# Altium footprint library Connector.PcbLib: 170 footprints (part 10 of 11)
Each footprint in its own frame and in the unit in brackets; x right, y up, seen from the top. Pads: shape width x height; smd on the part's side, far side on the other; paste and mask are expansions set on the pad; w line width, h text height; cw(c..) or ccw(c..) is an arc to the next point about the centre after c.
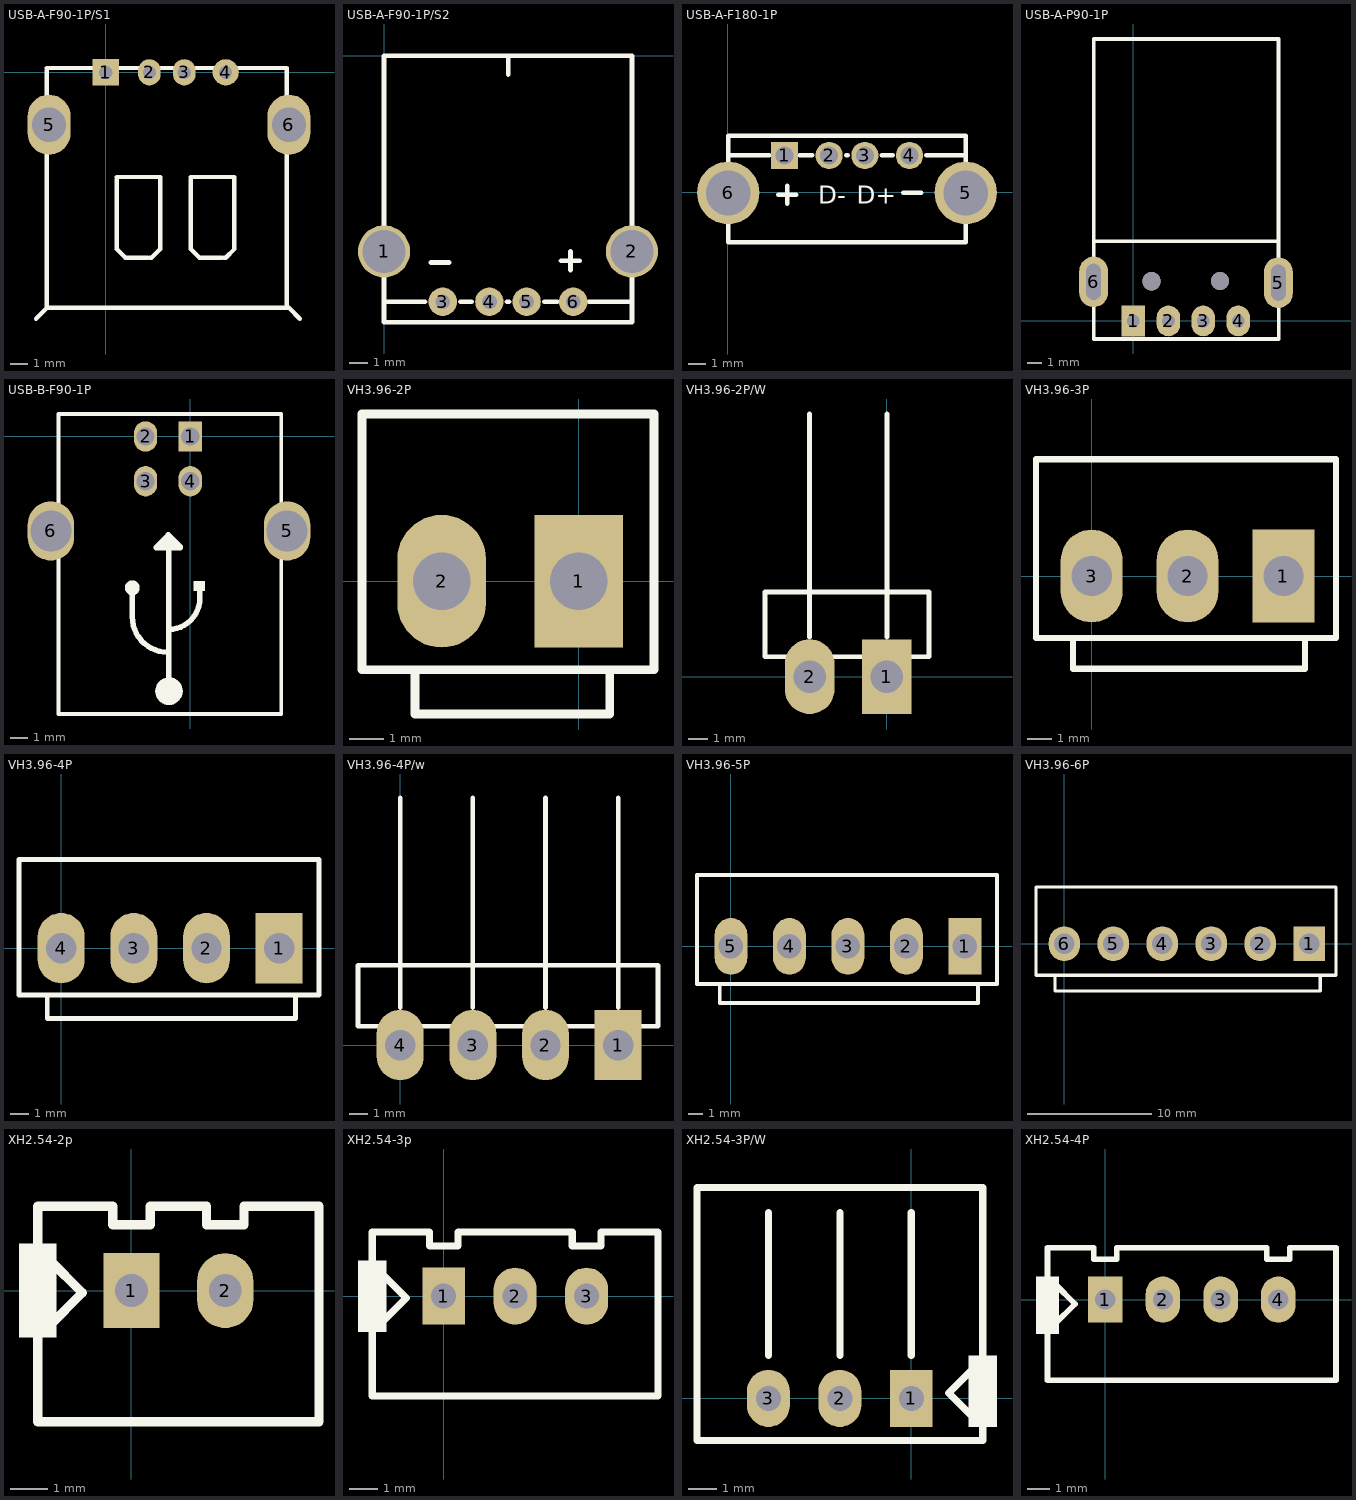
[diagram p9: the footprints below, top view; thin cyan lines are the x and y axes]

## USB-A-F90-1P/S1 [mil] "USB-A卧式插座1"
pads (6):
  rect 60x60 hole 30: 1(0,0)
  oval 52.13x60 hole 30: 2(100,0) 3(180,0)
  round 60 hole 30: 4(275,0)
  oval 98.43x137.8 hole 78.74: 5(-130,-120) 6(420,-120)
Top Overlay:
  lines w10: -160,-565 -135,-540 ; -135,5 -135,-540 ; -135,10 415,10 415,-540 ; 25,-245 25,-405 45,-425 95,-425 ; 25,-240 125,-240 125,-405 105,-425 100,-425 ; 195,-245 195,-405 215,-425 265,-425 ; 195,-240 295,-240 295,-405 275,-425 270,-425 ; 445,-565 420,-540 415,-540 ; -135,-540 415,-540
3D body: height 275.59, standoff 0, extent -135,-540 415,10

## USB-A-F90-1P/S2 [mm] "USB-A卧式插座2"
pads (6):
  round 2.8 hole 2.3: 1(0,-10.5) 2(13.3,-10.5)
  round 1.524 hole 0.8: 3(3.15,-13.2) 4(5.65,-13.2) 5(7.65,-13.2) 6(10.15,-13.2)
Top Overlay:
  lines w0.254: 0,-13.2 2.2,-13.2 ; 2.5,-11.1 3.5,-11.1 ; 4.1,-13.2 4.7,-13.2 ; 6.6,-13.2 6.7,-13.2 ; 6.66,-1 6.66,0 ; 8.6,-13.2 9.3,-13.2 ; 9.5,-11 10.5,-11 ; 10,-11.5 10,-10.5 ; 11,-13.2 13.3,-13.2 ; 0,-14.3 0,0 13.3,0 13.3,-14.3 0,-14.3
3D body "Samtec-USBR-A-S-S-O-TH.STEP": height 7.55, standoff -3.3, extent -1.245,-14.3 14.555,-0.14

## USB-A-F180-1P [mm] "USB-A立式插座"
height 14
pads (6):
  rect 1.524x1.524 hole 1: 1(3.185,2.065)
  round 1.524 hole 1: 2(5.685,2.065) 3(7.685,2.065) 4(10.185,2.065)
  round 3.5 hole 2.5: 5(13.335,-0.035) 6(0.035,-0.035)
Top Overlay:
  lines w0.254: 0.035,2.065 2.335,2.065 ; 2.835,-0.135 3.835,-0.135 ; 3.335,-0.635 3.335,0.365 ; 4.035,2.065 4.735,2.065 ; 6.635,2.065 6.735,2.065 ; 8.635,2.065 9.235,2.065 ; 9.835,-0.035 10.835,-0.035 ; 11.135,2.065 13.335,2.065 ; 0.035,-2.794 0.035,3.165 13.335,3.165 13.335,-2.794 0.035,-2.794
  text "D+" at 7.239,-0.635 h1
  text "D-" at 5.08,-0.635 h1
3D body: height 14, standoff 0, extent 0,-2.794 13.335,3.175

## USB-A-P90-1P [mil] "USB-A插头"
pads (6):
  rect 65x85 hole 35: 1(0,0)
  oval 65x85 hole 35: 2(97,0) 3(193,0) 4(290,0)
  oval 80x140 hole 40 slot 100 at 90 deg: 5(401,106) 6(-110,108)
via 50,110 diameter 51 hole 51
via 240,110 diameter 50 hole 50
Top Overlay:
  lines w10: -110,220 -110,-50 402.02,-50 401.57,220 ; -110,220 401.57,220 ; -110,220 -110,780 401.57,780 401.57,220
3D body: height 177.17, standoff 0, extent -110,-50 400,775

## USB-B-F90-1P [mm] "USB-B插座"
pads (6):
  rect 1.3x1.7 hole 1.016: 1(0,0)
  oval 1.3x1.7 hole 1.016: 2(-2.5,0) 3(-2.5,-2.5) 4(0,-2.5)
  oval 2.6x3.3 hole 2.3: 5(5.411,-5.281) 6(-7.789,-5.281)
Top Overlay:
  rectangle: -1.514,-14.706 -0.814,-13.756
  rectangle: -3.339,-8.531 -3.139,-8.331
  rectangle: 0.186,-8.631 0.836,-8.081
  lines w0.203: -7.366,-15.506 -7.366,1.256 5.08,1.256 5.08,-15.506 -7.366,-15.506
  lines w0.305: -3.239,-8.581 -3.239,-10.081 ccw(c-1.264,-10.081) -1.264,-12.056 ; -3.025,-8.605 cw(c-3.239,-8.456) -2.989,-8.532 ; -1.914,-6.206 -0.564,-6.206 -0.814,-5.956 -1.639,-5.956 ; -1.889,-6.181 -1.214,-5.506 -1.214,-13.981 ; -1.614,-13.906 ccw(c-1.214,-14.156) -1.564,-13.84 ; -1.516,-13.707 ccw(c-1.189,-14.231) -1.469,-13.681 ; -1.239,-5.756 -1.239,-5.481 -0.564,-6.156 ; -1.214,-10.781 ccw(c-1.214,-9.031) 0.536,-9.031 0.536,-8.681 ; -1.09,-13.979 ccw(c-1.264,-14.106) -1.05,-14.079
3D body: height 8, standoff 0, extent -7.239,-15.367 4.953,1.143

## VH3.96-2P [mil]
pads (2):
  rect 100x150 hole 65: 1(0,0)
  oval 100x150 hole 65: 2(-155,0)
Top Overlay:
  lines w10: -185,-100 -185,-150 35,-150 35,-100 ; -245,-100 85,-100 85,188.98 -245,188.98 -245,-100
3D body: height 429.13, standoff -78.74, extent -25,-20 25,20
3D body: height 429.13, standoff -78.74, extent -180,-20 -130,20
3D body: height 370.08, standoff 0, extent -180,-150 40,-100
3D body: height 125.98, standoff 0, extent -240,-100 90,180

## VH3.96-2P/W [mil] "Right Angle DIP Type. Pin Length=13.4mm"
pads (2):
  rect 100x150 hole 65: 1(0,0)
  oval 100x150 hole 65: 2(-155,0)
Top Overlay:
  lines w10: -155,80 -155,527.56 ; 0,80 0,527.56 ; -245,40 -245,170 85,170 85,40 -245,40
3D body: height 188.98, standoff -78.74, extent -25,-20 25,20
3D body: height 188.98, standoff -78.74, extent -180,-20 -130,20
3D body: height 208.66, standoff 169.29, extent -25,-20 25,530
3D body: height 208.66, standoff 169.29, extent -180,-20 -130,530
3D body: height 334.65, standoff 295.28, extent -201,40 45,480
3D body: height 334.65, standoff 0, extent -245,40 85,170

## VH3.96-3P [mil]
pads (3):
  rect 100x150 hole 65: 1(310,0)
  oval 100x150 hole 65: 2(155,0) 3(0,0)
Top Overlay:
  lines w10: -30,-100 -30,-150 345,-150 345,-100 ; -90,-100 -90,188.98 395,188.98 395,-100 -90,-100
3D body: height 429.13, standoff -78.74, extent -25,-20 25,20
3D body: height 429.13, standoff -78.74, extent 285,-20 335,20
3D body: height 429.13, standoff -78.74, extent 130,-20 180,20
3D body: height 370.08, standoff 0, extent -30,-150 350,-100
3D body: height 125.98, standoff 0, extent -90,-100 400,180

## VH3.96-4P [mil]
pads (4):
  rect 100x150 hole 65: 1(465,0)
  oval 100x150 hole 65: 2(310,0) 3(155,0) 4(0,0)
Top Overlay:
  lines w10: -30,-100 -30,-150 500,-150 500,-100 ; -90,-100 -90,188.98 550,188.98 550,-100 -90,-100
3D body: height 429.13, standoff -78.74, extent 440,-20 490,20
3D body: height 429.13, standoff -78.74, extent -25,-20 25,20
3D body: height 429.13, standoff -78.74, extent 285,-20 335,20
3D body: height 429.13, standoff -78.74, extent 130,-20 180,20
3D body: height 370.08, standoff 0, extent -30,-150 500,-100
3D body: height 125.98, standoff 0, extent -90,-100 550,180

## VH3.96-4P/w [mil] "Right Angle DIP Type. Pin Length=13.4mm"
pads (4):
  rect 100x150 hole 65: 1(465,0)
  oval 100x150 hole 65: 2(310,0) 3(155,0) 4(0,0)
Top Overlay:
  lines w10: 0,80 0,527.56 ; 155,80 155,527.56 ; 310,80 310,527.56 ; 465,80 465,527.56 ; -90,40 550,40 550,170 -90,170 -90,40
3D body: height 334.65, standoff 0, extent -90,40 550,170
3D body: height 334.65, standoff 295.28, extent -50,40 510,480
3D body: height 188.98, standoff -78.74, extent -25,-20 25,20
3D body: height 208.66, standoff 169.29, extent -25,-20 25,530
3D body: height 208.66, standoff 169.29, extent 130,-20 180,530
3D body: height 208.66, standoff 169.29, extent 285,-20 335,530
3D body: height 208.66, standoff 169.29, extent 440,-20 490,530
3D body: height 188.98, standoff -78.74, extent 130,-20 180,20
3D body: height 188.98, standoff -78.74, extent 285,-20 335,20
3D body: height 188.98, standoff -78.74, extent 440,-20 490,20

## VH3.96-5P [mil]
pads (5):
  rect 86.61x150 hole 65: 1(620,0)
  oval 86.61x150 hole 65: 2(465,0) 3(310,0) 4(155,0) 5(0,0)
Top Overlay:
  lines w10: -30,-100 -30,-150 655,-150 655,-100 ; -90,-100 705,-100 705,188.98 -90,188.98 -90,-100
3D body: height 429.13, standoff -78.74, extent 595,-20 645,20
3D body: height 125.98, standoff 0, extent -90,-100 705,180
3D body: height 370.08, standoff 0, extent -30,-150 655,-100
3D body: height 429.13, standoff -78.74, extent 130,-20 180,20
3D body: height 429.13, standoff -78.74, extent 285,-20 335,20
3D body: height 429.13, standoff -78.74, extent -25,-20 25,20
3D body: height 429.13, standoff -78.74, extent 440,-20 490,20

## VH3.96-6P [mil]
pads (6):
  rect 100x110 hole 65: 1(775,0)
  oval 100x110 hole 65: 2(620,0) 3(465,0) 4(310,0) 5(155,0) 6(0,0)
Top Overlay:
  lines w10: -30,-100 -30,-150 810,-150 810,-100 ; -90,-100 860,-100 860,180 -90,180 -90,-100
3D body: height 429.13, standoff -78.74, extent 595,-20 645,20
3D body: height 125.98, standoff 0, extent -90,-100 860,180
3D body: height 370.08, standoff 0, extent -30,-150 810,-100
3D body: height 429.13, standoff -78.74, extent 130,-20 180,20
3D body: height 429.13, standoff -78.74, extent 285,-20 335,20
3D body: height 429.13, standoff -78.74, extent -25,-20 25,20
3D body: height 429.13, standoff -78.74, extent 440,-20 490,20
3D body: height 429.13, standoff -78.74, extent 750,-20 800,20

## XH2.54-2p [mil]
pads (2):
  rect 60x80 hole 35: 1(0,0)
  oval 60x80 hole 35: 2(100,0)
Top Overlay:
  region: -80,50 -120,50 -120,-50 -80,-50
  lines w10: -87.44,-37.44 -52.44,-2.44 -87.44,32.56 ; -100,-140 -100,90 -20,90 -20,70 20,70 20,90 80,90 80,70 120,70 120,90 200,90 200,-140 -100,-140
3D body: height 236.22, standoff -78.74, extent 84,-16 115.37,15.43
3D body: height 236.22, standoff -78.74, extent -16,-16 15.37,15.43
3D body: height 78.74, standoff 0, extent -100,-140 200,90
3D body: height 255.91, standoff 0, extent 120,60 200,90
3D body: height 255.91, standoff 0, extent 20,60 80,90
3D body: height 255.91, standoff 0, extent -100,60 -20,90
3D body: height 255.91, standoff 0, extent -100,-140 200,40

## XH2.54-3p [mil]
pads (3):
  rect 60x80 hole 35: 1(0,0)
  oval 60x80 hole 35: 2(100,0) 3(200,0)
Top Overlay:
  region: -80,50 -120,50 -120,-50 -80,-50
  lines w10: -87.44,-37.44 -52.44,-2.44 -87.44,32.56 ; -100,-140 300,-140 300,90 220,90 220,70 180,70 180,90 20,90 20,70 -20,70 -20,90 -100,90 -100,-140
3D body: height 255.91, standoff 0, extent -100,-140 300,40
3D body: height 255.91, standoff 0, extent -100,60 -20,90
3D body: height 255.91, standoff 0, extent 20,60 180,90
3D body: height 255.91, standoff 0, extent 220,60 300,90
3D body: height 78.74, standoff 0, extent -100,-140 300,90
3D body: height 236.22, standoff -78.74, extent -16,-16 15.37,15.43
3D body: height 236.22, standoff -78.74, extent 84,-16 115.37,15.43
3D body: height 236.22, standoff -78.74, extent 184,-16 215.37,15.43

## XH2.54-3P/W [mil]
pads (3):
  rect 60x80 hole 35: 1(0,0)
  oval 60x80 hole 35: 2(-100,0) 3(-200,0)
Top Overlay:
  rectangle: 80,-40 120,60
  lines w10: -200,60 -200,260 ; -100,60 -100,260 ; 0,60 0,260 ; 87.44,-27.44 52.44,7.56 87.44,42.56 ; -300,-59.06 100,-59.06 100,295.28 -300,295.28 -300,-59.06
3D body: height 275.59, standoff 0, extent -300,-60 100,-20
3D body: height 39.37, standoff 0, extent -300,-60 100,290
3D body: height 275.59, standoff 236.22, extent -300,-60 100,290
3D body: height 275.59, standoff 0, extent -300,-60 -260,290
3D body: height 275.59, standoff 0, extent 60,-60 100,290

## XH2.54-4P [mil]
pads (4):
  rect 60x80 hole 35: 1(0,0)
  oval 60x80 hole 35: 2(100,0) 3(200,0) 4(300,0)
Top Overlay:
  region: -80,40 -120,40 -120,-60 -80,-60
  lines w10: -87.44,-42.56 -52.44,-7.56 -87.44,27.44 ; -100,-140 400,-140 400,90 320,90 320,70 280,70 280,90 20,90 20,70 -20,70 -20,90 -100,90 -100,-140
3D body: height 78.74, standoff 0, extent -100,-140 400,90
3D body: height 255.91, standoff 0, extent 320,60 400,90
3D body: height 255.91, standoff 0, extent 20,60 280,90
3D body: height 255.91, standoff 0, extent -100,60 -20,90
3D body: height 255.91, standoff 0, extent -100,-140 400,40
3D body: height 236.22, standoff -78.74, extent -16,-16 15.37,15.43
3D body: height 236.22, standoff -78.74, extent 84,-16 115.37,15.43
3D body: height 236.22, standoff -78.74, extent 184,-16 215.37,15.43
3D body: height 236.22, standoff -78.74, extent 284,-16 315.37,15.43